# Altium footprint library epf.PcbLib: 52 footprints (part 4 of 4)
Each footprint in its own frame and in the unit in brackets; x right, y up, seen from the top. Pads: shape width x height; smd on the part's side, far side on the other; paste and mask are expansions set on the pad; w line width, h text height; cw(c..) or ccw(c..) is an arc to the next point about the centre after c.
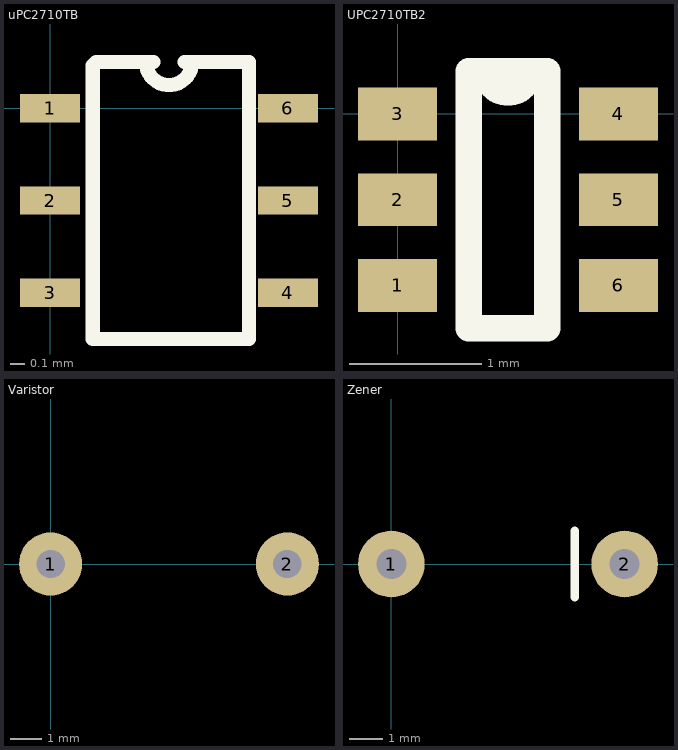
[diagram p3: the footprints below, top view; thin cyan lines are the x and y axes]

## uPC2710TB [mm]
pads (6):
  rect 0.425x0.2 smd: 1(0,0) 2(0,-0.65) 3(0,-1.3) 4(1.675,-1.3) 5(1.675,-0.65) 6(1.675,0)
Top Overlay:
  lines w0.1: 0.675,0.325 ccw(c0.837,0.325) 1,0.325 ; 0.728,0.325 0.325,0.325 0.3,0.3 0.3,-1.625 1.4,-1.625 1.4,0.325 0.947,0.325

## UPC2710TB2 [mm]
pads (6):
  rect 0.6x0.4 smd: 1(0,-1.3) 2(0,-0.65) 3(0,0) 4(1.675,0) 5(1.675,-0.65) 6(1.675,-1.3)
Top Overlay:
  lines w0.2: 0.54,-1.625 0.54,0.325 1,0.325 cw(c0.837,0.325) 0.675,0.325 1.135,0.325 1.135,-1.625 0.54,-1.625

## Varistor [mm]
pads (2):
  round 2 hole 0.9: 1(0,0) 2(7.5,0)
3D body: height 16.5, standoff -2, extent -2.042,-1.221 9.229,1.135

## Zener [mm]
pads (2):
  round 2 hole 0.9: 1(0,0) 2(7,0)
Top Overlay:
  lines w0.254: 5.5,-1 5.5,1